# Altium schematic symbol library Schlib.SchLib: 9 symbols
Pins are listed as number, name and electrical type; pins without a type are passive.

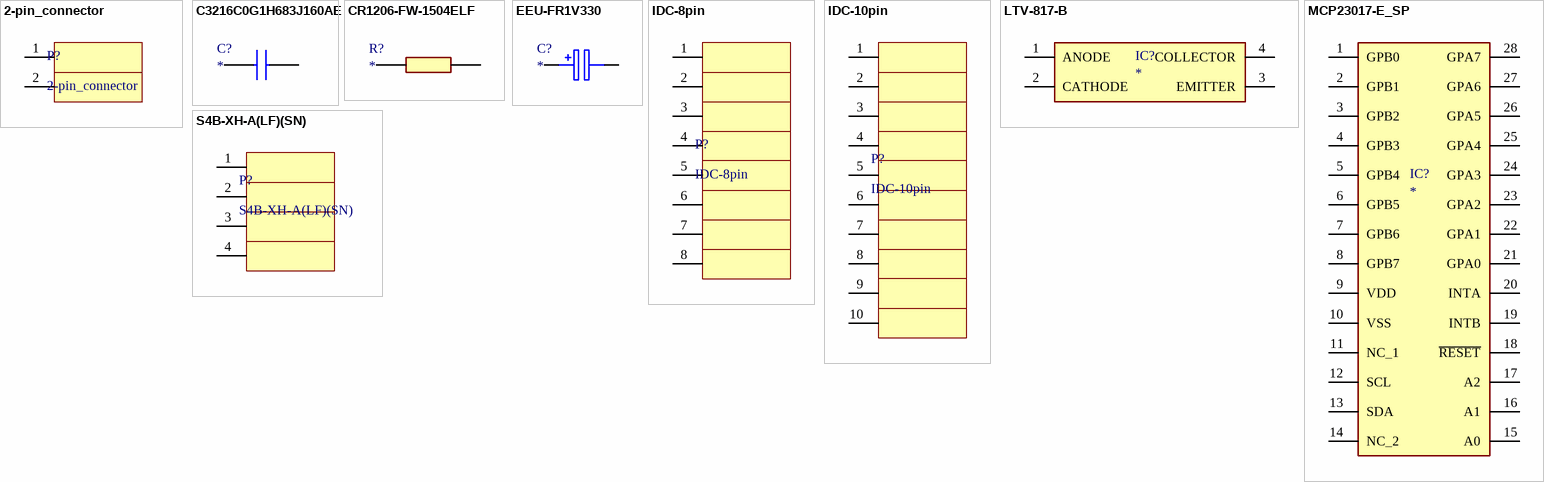
[diagram p0: symbols 2-pin_connector to S4B-XH-A(LF)(SN)]

## 2-pin_connector
designator P?
ComponentLink1Description: Manufacturer URL; DatasheetVersion: May-16; ComponentLink2Description: Datasheet
footprint 2-pin_connector (Шаг 2.54мм)
pins: 1, 2

## C3216C0G1H683J160AE
designator C?
Capacitor; Manufacturer_Name: TDK; Manufacturer_Part_Number: C3216C0G1H683J160AE; Datasheet Link: https://product.tdk.com/info/en/catalog/datasheets/mlcc_commercial_midvoltage_en.pdf; Height: 1.8mm; Mouser Part Number: 810-C3216C0G1H683J16; Mouser Price/Stock: https://www.mouser.co.uk/ProductDetail/TDK/C3216C0G1H683J160AE?qs=P1JMDcb91o7iXP%252BmsCRcbg%3D%3D
footprint CAPC3216X180N
pins: 1, 2

## CR1206-FW-1504ELF
designator R?
Resistor; Manufacturer_Name: Bourns; Manufacturer_Part_Number: CR1206-FW-1504ELF; Datasheet Link: http://componentsearchengine.com/Datasheets/1/CR1206-FW-1504ELF.pdf; Height: 0.75mm; Mouser Part Number: 652-CR1206FW1504ELF; Mouser Price/Stock: https://www.mouser.co.uk/ProductDetail/Bourns/CR1206-FW-1504ELF/?qs=6oMev5NRZMFfvXkOpYL2%252BA%3D%3D; Arrow Part Number: CR1206-FW-1504ELF; Arrow Price/Stock: https://www.arrow.com/en/products/cr1206-fw-1504elf/bourns
footprint RESC3216X75N
pins: 1, 2

## EEU-FR1V330
designator C?
Capacitor Polarised; Manufacturer_Name: Panasonic; Manufacturer_Part_Number: EEU-FR1V330; Datasheet Link: https://componentsearchengine.com/Datasheets/1/EEU-FR1V330.pdf; Height: 12.5mm; Mouser Part Number: 667-EEU-FR1V330; Mouser Price/Stock: http://www.mouser.com/Search/ProductDetail.aspx?qs=ob%252bdNz2%252bYEhHeC0uCpfxxQ%3d%3d
footprint CAPPRD200W55D500H1250
pins: 1 +, 2 -

## IDC-8pin
designator P?
PackageReference: IDC-8pin; ComponentLink1Description: Manufacturer URL; DatasheetVersion: May-16; ComponentLink2Description: Datasheet
footprint IDC-8pin
pins: 1, 2, 3, 4, 5, 6, 7, 8

## IDC-10pin
designator P?
PackageReference: IDC-8pin; ComponentLink1Description: Manufacturer URL; DatasheetVersion: May-16; ComponentLink2Description: Datasheet
footprint IDC-10PIN
pins: 1, 2, 3, 4, 5, 6, 7, 8, 9 7, 10 8

## LTV-817-B
designator IC?
Integrated Circuit; Manufacturer_Name: Lite-On; Manufacturer_Part_Number: LTV-817-B; Datasheet Link: http://optoelectronics.liteon.com/upload/download/DS-70-96-0016/LTV-8X7%20series%20201610%20.pdf; Height: 4.2mm; Mouser Part Number: N/A; Mouser Price/Stock: https://www.mouser.co.uk/ProductDetail/Lite-On/LTV-817-B?qs=5Clb0NIqk7HzP4M9tIz87Q%3D%3D; Arrow Part Number: LTV-817-B; Arrow Price/Stock: https://www.arrow.com/en/products/ltv-817-b/lite-on-technology
footprint DIP762W60P254L460H420Q4N
pins: 1 ANODE, 2 CATHODE, 3 EMITTER, 4 COLLECTOR

## MCP23017-E_SP
designator IC?
Integrated Circuit; Manufacturer_Name: Microchip; Manufacturer_Part_Number: MCP23017-E/SP; Datasheet Link: http://docs-emea.rs-online.com/webdocs/137e/0900766b8137eed4.pdf; Height: 5.08mm; Mouser Part Number: 579-MCP23017-E/SP; Mouser Price/Stock: https://www.mouser.co.uk/ProductDetail/Microchip-Technology/MCP23017-E-SP?qs=usxtMOJb1RyESXZDw7ia5A%3D%3D; Arrow Part Number: MCP23017-E/SP; Arrow Price/Stock: https://www.arrow.com/en/products/mcp23017-esp/microchip-technology
footprint DIP794W56P254L3486H508Q28N
pins: 1 GPB0, 2 GPB1, 3 GPB2, 4 GPB3, 5 GPB4, 6 GPB5, 7 GPB6, 8 GPB7, 9 VDD, 10 VSS, 11 NC_1, 12 SCL, 13 SDA, 14 NC_2, 15 A0, 16 A1, 17 A2, 18 ~{RESET}, 19 INTB, 20 INTA, 21 GPA0, 22 GPA1, 23 GPA2, 24 GPA3, 25 GPA4, 26 GPA5, 27 GPA6, 28 GPA7

## S4B-XH-A(LF)(SN)
designator P?
Male Header, Pitch 2.5 mm, 1 x 4 Position, Height 6.1 mm, Tail Length 3.4 mm, -25 to 85 degC, RoHS, Bulk; PackageReference: S4B-XH-A(LF)(SN); ComponentLink1Description: Manufacturer URL; DatasheetVersion: May-16; ComponentLink2Description: Datasheet; ComponentLink2URL: http://www.jst-mfg.com/product/pdf/eng/eXH.pdf; ComponentLink1URL: http://www.jst.com/home2.html; PackageDescription: Male Header, Pitch 2.5 mm, 1 x 4 Position, Height 6.1 mm, Tail Length 3.4 mm
footprint JST-S4B-XH-A(LF)(SN)_V (Header, 4-Leads, Body 12.4x11.5mm, Pitch 2.5mm)
pins: 1, 2, 3, 4